# Altium footprint library robopoly.PCBLIB: 53 footprints (part 4 of 4)
Each footprint in its own frame and in the unit in brackets; x right, y up, seen from the top. Pads: shape width x height; smd on the part's side, far side on the other; paste and mask are expansions set on the pad; w line width, h text height; cw(c..) or ccw(c..) is an arc to the next point about the centre after c.
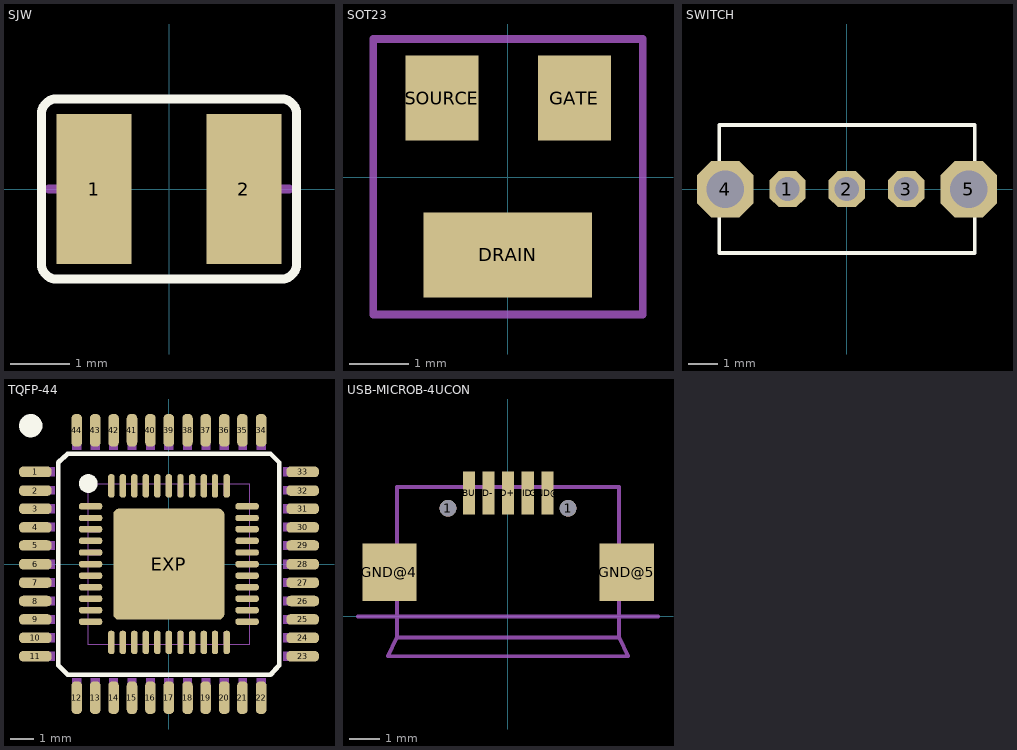
[diagram p3: the footprints below, top view; thin cyan lines are the x and y axes]

## SJW [mil]
pads (2):
  rect 50x100 smd: 1(-50,0) 2(50,0)
Top Overlay:
  lines w6: -85,-50 ccw(c-75,-50) -75,-60 75,-60 ccw(c75,-50) 85,-50 85,50 ccw(c75,50) 75,60 -75,60 ccw(c-75,50) -85,50 -85,-50
Mechanical 16:
  rectangle: 30,-30 40,30
  rectangle: 40,-25 50,25
  rectangle: 50,-20 55,20
  rectangle: 55,-10 60,10
  rectangle: -40,-30 -30,30
  rectangle: -50,-25 -40,25
  rectangle: -55,-20 -50,20
  rectangle: -60,-10 -55,10
  rectangle: 38,-28 43,-23
  rectangle: 53,-14 58,-9
  rectangle: 53,8 58,13
  rectangle: 38,23 43,28
  rectangle: -43,-28 -38,-23
  rectangle: -57,-13 -52,-8
  rectangle: -58,8 -53,13
  rectangle: -44,23 -39,28
  lines w6: -80,0 -60,0 ; 60,0 80,0 ; -30,-30 -30,30 ccw(c-30,0) -30,-30 ; 30,-30 30,30 cw(c30,0) 30,-30

## SOT23 [mil]
pads (3):
  rect 111x56 smd: DRAIN(0,-51.18)
  rect 48x56 smd: GATE(44,52) SOURCE(-43.31,52)
Mechanical 14:
  lines w5: -88.58,-90.55 89,-90.55 89,91 -88.58,91 -88.58,-90.55

## SWITCH [mil]
pads (5):
  oct 48x48 hole 32: 1(-78.74,0) 2(0,0) 3(79,0)
  oct 75x75 hole 50: 4(-161.42,0) 5(162,0)
Top Overlay:
  lines w5: -169.29,-84.65 170,-84.65 170,85 -169.29,85 -169.29,-84.65

## TQFP-44 [mil]
pads (89):
  rrect80% 56x18 smd: 1(-228.35,158) 2(-228.35,126) 3(-228.35,95) 4(-228.35,63) 5(-228.35,32) 6(-228.35,0) 7(-228.35,-31.5) 8(-228.35,-62.99) 9(-228.35,-94.49) 10(-228.35,-125.98) 11(-228.35,-157.48) 23(229,-157.48) 24(229,-125.98) 25(229,-94.49) 26(229,-62.99) 27(229,-31.5) 28(229,0) 29(229,32) 30(229,63) 31(229,95) 32(229,126) 33(229,158)
  rrect80% 18x56 smd: 12(-157.48,-228.35) 13(-125.98,-228.35) 14(-94.49,-228.35) 15(-62.99,-228.35) 16(-31.5,-228.35) 17(0,-228.35) 18(32,-228.35) 19(63,-228.35) 20(95,-228.35) 21(126,-228.35) 22(158,-228.35) 34(158,229) 35(126,229) 36(95,229) 37(63,229) 38(32,229) 39(0,229) 40(-31.5,229) 41(-62.99,229) 42(-94.49,229) 43(-125.98,229) 44(-157.48,229)
  rrect80% 40x11 smd: 45(-133.86,99) 46(-133.86,79) 47(-133.86,60) 48(-133.86,40) 49(-133.86,20) 50(-133.86,0) 51(-133.86,-19.68) 52(-133.86,-39.37) 53(-133.86,-59.06) 54(-133.86,-78.74) 55(-133.86,-98.43) 67(134,-98.43) 68(134,-78.74) 69(134,-59.06) 70(134,-39.37) 71(134,-19.68) 72(134,0) 73(134,20) 74(134,40) 75(134,60) 76(134,79) 77(134,99)
  rrect80% 11x40 smd: 56(-98.43,-133.86) 57(-78.74,-133.86) 58(-59.06,-133.86) 59(-39.37,-133.86) 60(-19.68,-133.86) 61(0,-133.86) 62(20,-133.86) 63(40,-133.86) 64(60,-133.86) 65(79,-133.86) 66(99,-133.86) 78(99,134) 79(79,134) 80(60,134) 81(40,134) 82(20,134) 83(0,134) 84(-19.68,134) 85(-39.37,134) 86(-59.06,134) 87(-78.74,134) 88(-98.43,134)
  rrect10% 190x190 smd: EXP(0,0)
Top Overlay:
  circle w20: c-236.22,237 r10
  circle w16: c-137.8,138 r8
  lines w8: -188.98,-173.23 -173.23,-188.98 174,-188.98 189,-173.23 189,174 174,189 -173.23,189 -188.98,174 -188.98,-173.23
Top Solder:
  rectangle: -59.06,-59.06 60,60
Mechanical 16:
  rectangle: -240.16,150 -194.88,166
  rectangle: -240.16,119 -194.88,134
  rectangle: -240.16,87 -194.88,103
  rectangle: -240.16,56 -194.88,71
  rectangle: -240.16,24 -194.88,40
  rectangle: -240.16,-7.87 -194.88,8
  rectangle: -240.16,-39.37 -194.88,-23.62
  rectangle: -240.16,-70.87 -194.88,-55.12
  rectangle: -240.16,-102.36 -194.88,-86.61
  rectangle: -240.16,-133.86 -194.88,-118.11
  rectangle: -240.16,-165.35 -194.88,-149.61
  rectangle: -165.35,-240.16 -149.61,-194.88
  rectangle: -133.86,-240.16 -118.11,-194.88
  rectangle: -102.36,-240.16 -86.61,-194.88
  rectangle: -70.87,-240.16 -55.12,-194.88
  rectangle: -39.37,-240.16 -23.62,-194.88
  rectangle: -7.87,-240.16 8,-194.88
  rectangle: 24,-240.16 40,-194.88
  rectangle: 56,-240.16 71,-194.88
  rectangle: 87,-240.16 103,-194.88
  rectangle: 119,-240.16 134,-194.88
  rectangle: 150,-240.16 166,-194.88
  rectangle: 195,-165.35 241,-149.61
  rectangle: 195,-133.86 241,-118.11
  rectangle: 195,-102.36 241,-86.61
  rectangle: 195,-70.87 241,-55.12
  rectangle: 195,-39.37 241,-23.62
  rectangle: 195,-7.87 241,8
  rectangle: 195,24 241,40
  rectangle: 195,56 241,71
  rectangle: 195,87 241,103
  rectangle: 195,119 241,134
  rectangle: 195,150 241,166
  rectangle: 150,195 166,241
  rectangle: 119,195 134,241
  rectangle: 87,195 103,241
  rectangle: 56,195 71,241
  rectangle: 24,195 40,241
  rectangle: -7.87,195 8,241
  rectangle: -39.37,195 -23.62,241
  rectangle: -70.87,195 -55.12,241
  rectangle: -102.36,195 -86.61,241
  rectangle: -133.86,195 -118.11,241
  rectangle: -165.35,195 -149.61,241
  rectangle: -4.92,-137.8 5,-116.14
  rectangle: 15,-137.8 25,-116.14
  rectangle: 35,-137.8 45,-116.14
  rectangle: 55,-137.8 64,-116.14
  rectangle: 74,-137.8 84,-116.14
  rectangle: 94,-137.8 104,-116.14
  rectangle: -24.61,-137.8 -14.76,-116.14
  rectangle: -44.29,-137.8 -34.45,-116.14
  rectangle: -63.98,-137.8 -54.13,-116.14
  rectangle: -83.66,-137.8 -73.82,-116.14
  rectangle: -103.35,-137.8 -93.5,-116.14
  region: -137.8,-93.5 -137.8,-103.35 -116.14,-103.35 -116.14,-93.5
  region: -137.8,-73.82 -137.8,-83.66 -116.14,-83.66 -116.14,-73.82
  region: -137.8,-54.13 -137.8,-63.98 -116.14,-63.98 -116.14,-54.13
  region: -137.8,-34.45 -137.8,-44.29 -116.14,-44.29 -116.14,-34.45
  region: -137.8,-14.76 -137.8,-24.61 -116.14,-24.61 -116.14,-14.76
  region: -137.88,5.01 -137.88,-4.83 -116.06,-4.83 -116.06,5.01
  region: -137.97,24.92 -137.97,15.08 -115.97,15.08 -115.97,24.92
  region: -137.97,44.92 -137.97,35.08 -115.97,35.08 -115.97,44.92
  region: -137.47,64.42 -137.47,54.58 -116.47,54.58 -116.47,64.42
  region: -137.97,83.92 -137.97,74.08 -115.97,74.08 -115.97,83.92
  region: -137.97,103.92 -137.97,94.08 -115.97,94.08 -115.97,103.92
  region: -93.5,138 -103.35,138 -103.35,117 -93.5,117
  region: -73.82,138 -83.66,138 -83.66,117 -73.82,117
  region: -54.13,138 -63.98,138 -63.98,117 -54.13,117
  region: -34.45,138 -44.29,138 -44.29,117 -34.45,117
  region: -14.76,138 -24.61,138 -24.61,117 -14.76,117
  region: 5,138 -4.92,138 -4.92,117 5,117
  region: 25,138 15,138 15,117 25,117
  region: 45,138 35,138 35,117 45,117
  region: 64,138 55,138 55,117 64,117
  region: 84,138 74,138 74,117 84,117
  region: 104,138 94,138 94,117 104,117
  region: 138.5,94.5 138.5,103.5 116.5,103.5 116.5,94.5
  region: 138.5,74.5 138.5,83.5 116.5,83.5 116.5,74.5
  region: 138,55 138,64 117,64 117,55
  region: 138.5,35.5 138.5,44.5 116.5,44.5 116.5,35.5
  region: 138.5,15.5 138.5,24.5 116.5,24.5 116.5,15.5
  region: 138.41,-4.41 138.41,4.59 116.59,4.59 116.59,-4.41
  region: 138.33,-24.19 138.33,-15.19 116.67,-15.19 116.67,-24.19
  region: 138.33,-43.87 138.33,-34.87 116.67,-34.87 116.67,-43.87
  region: 138.33,-63.56 138.33,-54.56 116.67,-54.56 116.67,-63.56
  region: 138.33,-83.24 138.33,-74.24 116.67,-74.24 116.67,-83.24
  region: 138.33,-102.93 138.33,-93.93 116.67,-93.93 116.67,-102.93
  lines w0: -137.8,-137.8 138,-137.8 138,138 -137.8,138 -137.8,-137.8

## USB-MICROB-4UCON [mil]
pads (9):
  round 22 hole 22: 1(-78.74,142) 1(79,142)
  rect 16x56 smd: D+(0,162) D-(-25.59,162) GND@1(52,162) ID(26,162) VBUS(-51.18,162)
  rect 71x75 smd: GND@4(-155.51,58) GND@5(156,58)
Mechanical 16:
  rectangle: -4.92,142 5,170
  rectangle: -173.23,40 -145.67,75
  rectangle: 146,40 174,75
  rectangle: 21,142 31,170
  rectangle: 47,142 57,170
  rectangle: -30.51,142 -20.67,170
  rectangle: -56.1,142 -46.26,170
  lines w5: -196.85,0 146,0 ; 197,0 146,0 ; -145.67,-27.56 -145.67,170 146,170 146,0 ; -145.67,-27.56 146,-27.56 ; -145.67,-27.56 -157.48,-52.36 158,-52.36 146,-27.56 ; 146,-27.56 146,0